# EAGLE library part AT28BV256 (library 6502-shield)
AT28BV256 Atmel 256K (32K x 8) Battery-voltage Parallel EEPROM (2.7 VDC - 3.6 VDC)
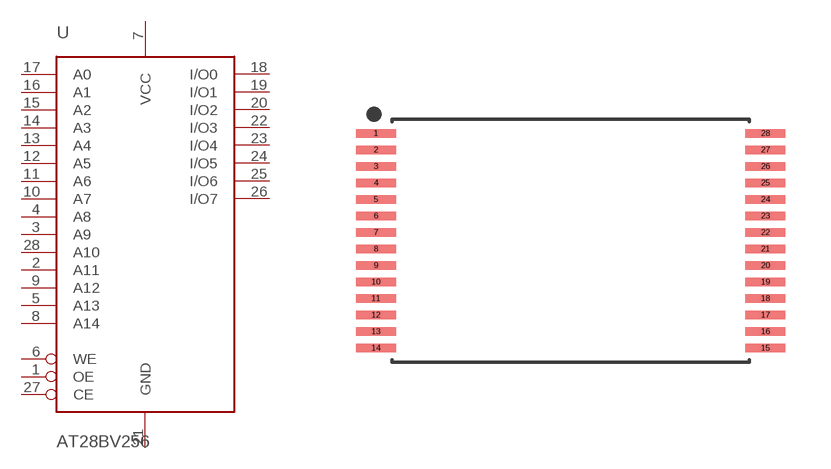
[diagram p5: symbol with the pads of SOP55P1340X120-28N; footprint SOP55P1340X120-28N]

Designator prefix U

## AT28BV256TSOP-28  [SOP55P1340X120-28N]
1  OE
2  A11
3  A9
4  A8
5  A13
6  WE
7  VCC
8  A14
9  A12
10  A7
11  A6
12  A5
13  A4
14  A3
15  A2
16  A1
17  A0
18  I/O0
19  I/O1
20  I/O2
21  GND
22  I/O3
23  I/O4
24  I/O5
25  I/O6
26  I/O7
27  CE
28  A10

## Footprint SOP55P1340X120-28N (pad centres in mm)
28-SOP, 0.55 mm pitch, 13.40 mm span, 8.00 X 11.80 X 1.20 mm body 28-pin SOP package with 0.55 mm pitch, 13.40 mm span with body size 8.00 X 11.80 X 1.20 mm
smd 1.336 x 0.28: 1 -6.489,3.575; 2 -6.489,3.025; 3 -6.489,2.475; 4 -6.489,1.925; 5 -6.489,1.375; 6 -6.489,0.825; 7 -6.489,0.275; 8 -6.489,-0.275; 9 -6.489,-0.825; 10 -6.489,-1.375; 11 -6.489,-1.925; 12 -6.489,-2.475; 13 -6.489,-3.025; 14 -6.489,-3.575; 15 6.489,-3.575; 16 6.489,-3.025; 17 6.489,-2.475; 18 6.489,-1.925; 19 6.489,-1.375; 20 6.489,-0.825; 21 6.489,-0.275; 22 6.489,0.275; 23 6.489,0.825; 24 6.489,1.375; 25 6.489,1.925; 26 6.489,2.475; 27 6.489,3.025; 28 6.489,3.575